# EAGLE library part KK-156-6 (library nw2s)
KK 156 HEADER Source: http://www.molex.com/pdm_docs/sd/026604100_sd.pdf
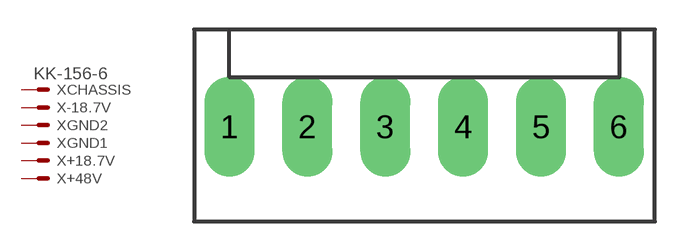
[diagram p20: symbol with the pads of KK-156-6; footprint KK-156-6]

Designator prefix X; gates CHASSIS=MV -18.7V=M GND2=M GND1=M +18.7V=M +48V=M

## KK-156-6 (OC_FARNELL: unknown; OC_NEWARK: unknown)  [KK-156-6]
1  CHASSIS:S  pas
2  -18.7V:S  pas
3  GND2:S  pas
4  GND1:S  pas
5  +18.7V:S  pas
6  +48V:S  pas

## Footprint KK-156-6 (pad centres in mm)
KK 156 HEADER Source: http://www.molex.com/pdm_docs/sd/026604100_sd.pdf
drill 1.7 pad 2.184 long: 1 -9.9,0; 2 -5.94,0; 3 -1.98,0; 4 1.98,0; 5 5.94,0; 6 9.9,0